# EAGLE library part STM32F205REY6 (library circuit_tree)
IC
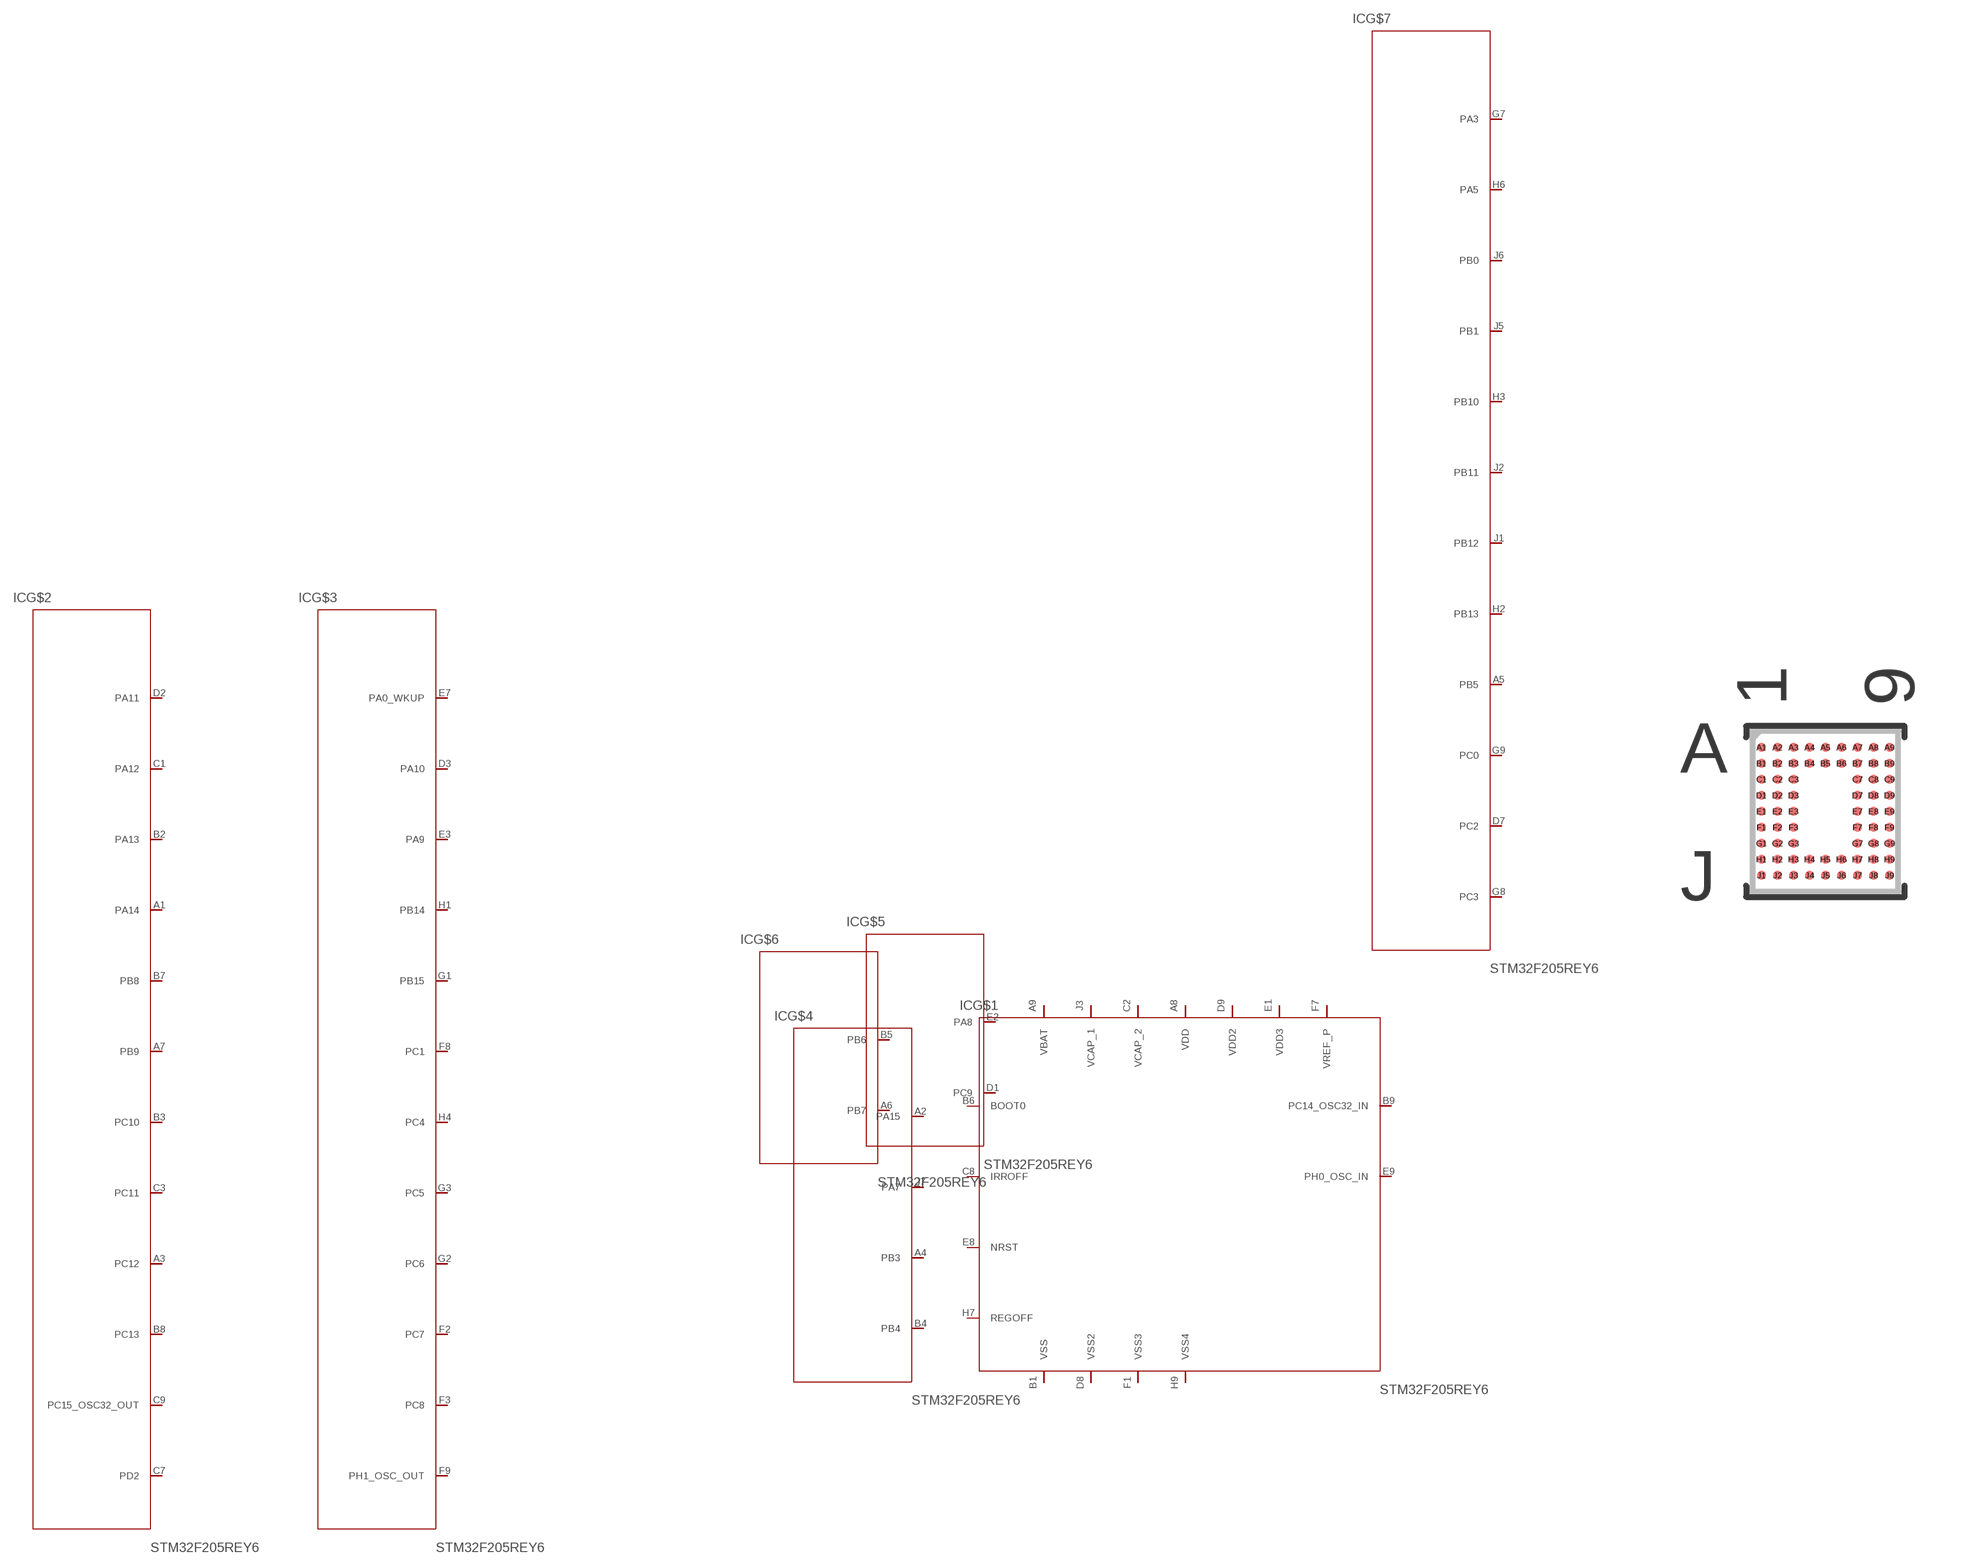
[diagram p8: symbol with the pads of WLCSP66; footprint WLCSP66]

Designator prefix IC; gates G$1=STM32F205REY6 G$2=STM32F205REY62 G$3=STM32F205REY63 G$4=STM32F205REY64 G$5=STM32F205REY65 G$6=STM32F205REY66 G$7=STM32F205REY67

## STM32F205REY6  [WLCSP66]
A1  G$2:PA14  pas
A2  G$4:PA15  pas
A3  G$2:PC12  pas
A4  G$4:PB3  pas
A5  G$7:PB5  pas
A6  G$6:PB7  pas
A7  G$2:PB9  pas
A8  G$1:VDD  pas
A9  G$1:VBAT  pas
B1  G$1:VSS  pas
B2  G$2:PA13  pas
B3  G$2:PC10  pas
B4  G$4:PB4  pas
B5  G$6:PB6  pas
B6  G$1:BOOT0  pas
B7  G$2:PB8  pas
B8  G$2:PC13  pas
B9  G$1:PC14_OSC32_IN  pas
C1  G$2:PA12  pas
C2  G$1:VCAP_2  pas
C3  G$2:PC11  pas
C7  G$2:PD2  pas
C8  G$1:IRROFF  pas
C9  G$2:PC15_OSC32_OUT  pas
D1  G$5:PC9  pas
D2  G$2:PA11  pas
D3  G$3:PA10  pas
D7  G$7:PC2  pas
D8  G$1:VSS2  pas
D9  G$1:VDD2  pas
E1  G$1:VDD3  pas
E2  G$5:PA8  pas
E3  G$3:PA9  pas
E7  G$3:PA0_WKUP  pas
E8  G$1:NRST  pas
E9  G$1:PH0_OSC_IN  pas
F1  G$1:VSS3  pas
F2  G$3:PC7  pas
F3  G$3:PC8  pas
F7  G$1:VREF_P  pas
F8  G$3:PC1  pas
F9  G$3:PH1_OSC_OUT  pas
G1  G$3:PB15  pas
G2  G$3:PC6  pas
G3  G$3:PC5  pas
G7  G$7:PA3  pas
G8  G$7:PC3  pas
G9  G$7:PC0  pas
H1  G$3:PB14  pas
H2  G$7:PB13  pas
H3  G$7:PB10  pas
H4  G$3:PC4  pas
H6  G$7:PA5  pas
H7  G$1:REGOFF  pas
H9  G$1:VSS4  pas
J1  G$7:PB12  pas
J2  G$7:PB11  pas
J3  G$1:VCAP_1  pas
J5  G$7:PB1  pas
J6  G$7:PB0  pas
J7  G$4:PA7  pas

## Footprint WLCSP66 (pad centres in mm)
smd 0.229 x 0.229: A1 -1.6,1.6; A2 -1.2,1.6; A3 -0.8,1.6; A4 -0.4,1.6; A5 0,1.6; A6 0.4,1.6; A7 0.8,1.6; A8 1.2,1.6; A9 1.6,1.6; B1 -1.6,1.2; B2 -1.2,1.2; B3 -0.8,1.2; B4 -0.4,1.2; B5 0,1.2; B6 0.4,1.2; B7 0.8,1.2; B8 1.2,1.2; B9 1.6,1.2; C1 -1.6,0.8; C2 -1.2,0.8; C3 -0.8,0.8; C7 0.8,0.8; C8 1.2,0.8; C9 1.6,0.8; D1 -1.6,0.4; D2 -1.2,0.4; D3 -0.8,0.4; D7 0.8,0.4; D8 1.2,0.4; D9 1.6,0.4; E1 -1.6,0; E2 -1.2,0; E3 -0.8,0; E7 0.8,0; E8 1.2,0; E9 1.6,0; F1 -1.6,-0.4; F2 -1.2,-0.4; F3 -0.8,-0.4; F7 0.8,-0.4; F8 1.2,-0.4; F9 1.6,-0.4; G1 -1.6,-0.8; G2 -1.2,-0.8; G3 -0.8,-0.8; G7 0.8,-0.8; G8 1.2,-0.8; G9 1.6,-0.8; H1 -1.6,-1.2; H2 -1.2,-1.2; H3 -0.8,-1.2; H4 -0.4,-1.2; H5 0,-1.2; H6 0.4,-1.2; H7 0.8,-1.2; H8 1.2,-1.2; H9 1.6,-1.2; J1 -1.6,-1.6; J2 -1.2,-1.6; J3 -0.8,-1.6; J4 -0.4,-1.6; J5 0,-1.6; J6 0.4,-1.6; J7 0.8,-1.6; J8 1.2,-1.6; J9 1.6,-1.6